# EAGLE library part MMA8653FC (library mbed-HDK-IC)
Accelerometer
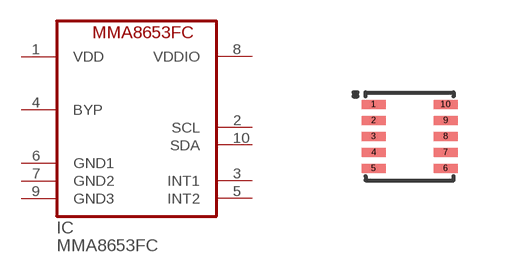
[diagram p0: symbol with the pads of DFN10_2X2; footprint DFN10_2X2]

Designator prefix IC

## MMA8653FC  [DFN10_2X2]
1  VDD
2  SCL
3  INT1
4  BYP
5  INT2
6  GND1
7  GND2
8  VDDIO
9  GND3
10  SDA

## Footprint DFN10_2X2 (pad centres in mm)
smd 0.6 x 0.225: 1 -0.9,0.8; 2 -0.9,0.4; 3 -0.9,0; 4 -0.9,-0.4; 5 -0.9,-0.8; 6 0.9,-0.8; 7 0.9,-0.4; 8 0.9,0; 9 0.9,0.4; 10 0.9,0.8